# EAGLE library part NXP_74HC4050D (library NXP - 74HC4050D)
Buffer, Non-Inverting 6 Element 1 Bit per Element Push-Pull Output
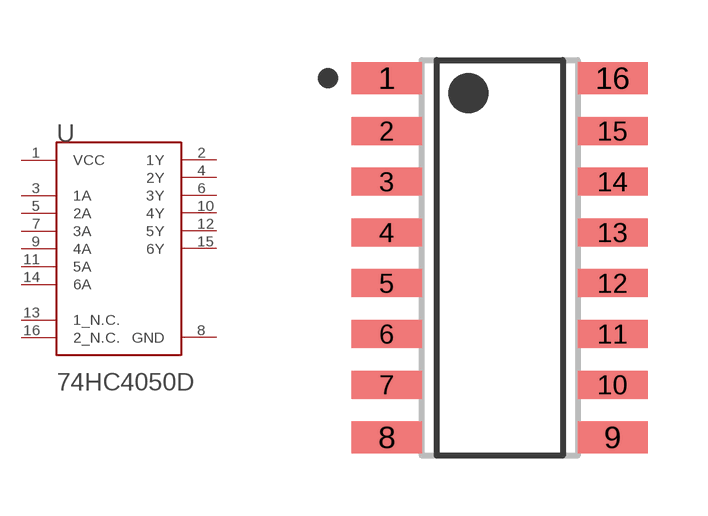
[diagram p0: symbol with the pads of NXP_74HC4050D_0; footprint NXP_74HC4050D_0]

Designator prefix U

## NXP_74HC4050DNXP_74HC4050D_0_0 (CENTROID_NOT_SPECIFIED: No; DATASHEET: http://www.nxp.com/documents/data_sheet/74HC4050.pdf; DIGIKEY_DESCRIPTION: IC Buffer, Non-Inverting 6 Element 1 Bit per Element Push-Pull Output 16-SO; DIGIKEY_PART_NUMBER: 568-8150-1-ND; LEAD_FREE: yes; LOGIC_TYPE: Buffer, Non-Inverting; MF: NXP; MFG_PACKAGE_IDENT: SOT109-1; MOUSER_PART_NUMBER: 771-74HC4050D-T; MPN: 74HC4050D; NUMBER_OF_ELEMENTS: 6; PACKAGE: SOIC-16; PREFIX: U; ROHS: yes; TEMPERATURE_RANGE_HIGH: +125°C; TEMPERATURE_RANGE_LOW: -40°C; VOLTAGE_-_SUPPLY: 2V ~ 6V)  [NXP_74HC4050D_0]
1  VCC
2  1Y
3  1A
4  2Y
5  2A
6  3Y
7  3A
8  GND
9  4A
10  4Y
11  5A
12  5Y
13  1_N.C.
14  6A
15  6Y
16  2_N.C.

## Footprint NXP_74HC4050D_0 (pad centres in mm)
Buffer, Non-Inverting 6 Element 1 Bit per Element Push-Pull Output
smd 1.75 x 0.8: 1 -2.825,4.495; 8 -2.825,-4.495; 9 2.825,-4.495; 16 2.825,4.495
smd 1.75 x 0.7: 2 -2.825,3.175; 3 -2.825,1.905; 4 -2.825,0.635; 5 -2.825,-0.635; 6 -2.825,-1.905; 7 -2.825,-3.175; 10 2.825,-3.175; 11 2.825,-1.905; 12 2.825,-0.635; 13 2.825,0.635; 14 2.825,1.905; 15 2.825,3.175